# Altium footprint library ETech PCB Rev 1.0.PcbLib: 102 footprints (part 5 of 7)
Each footprint in its own frame and in the unit in brackets; x right, y up, seen from the top. Pads: shape width x height; smd on the part's side, far side on the other; paste and mask are expansions set on the pad; w line width, h text height; cw(c..) or ccw(c..) is an arc to the next point about the centre after c.
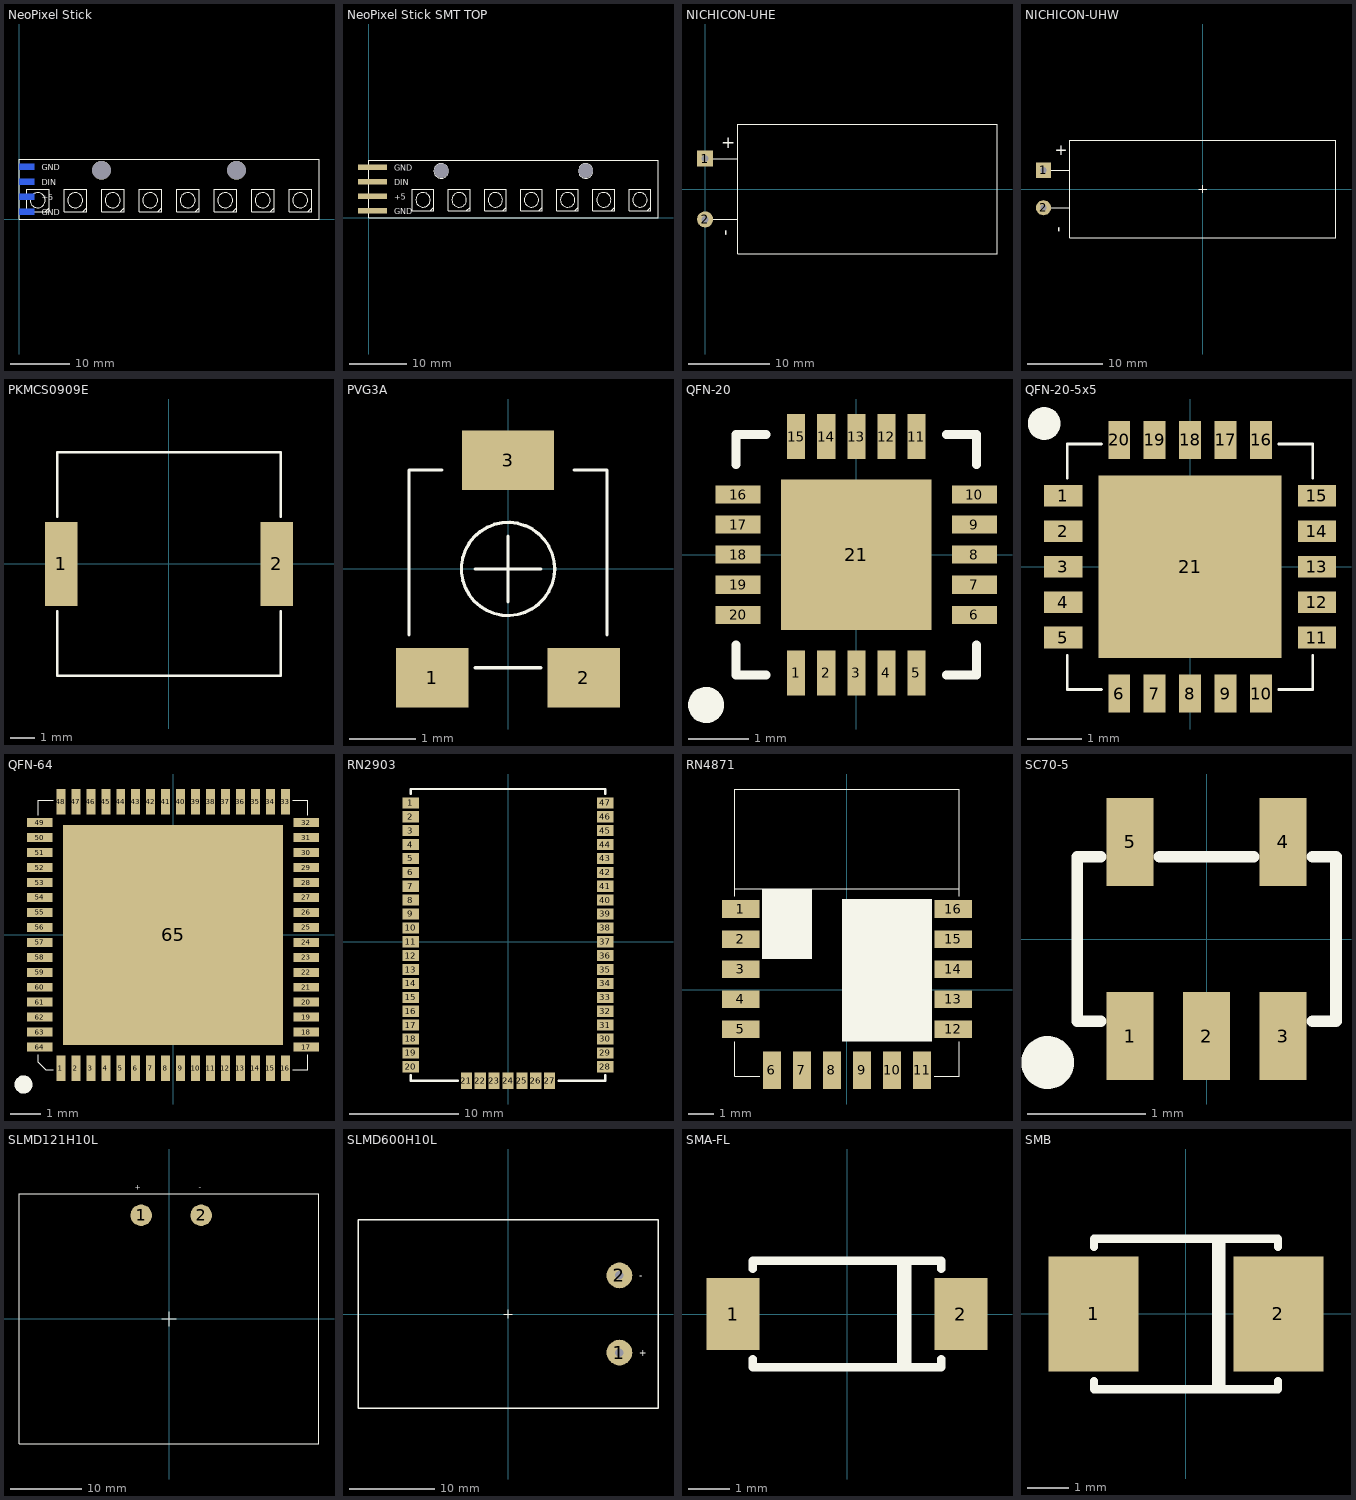
[diagram p4: the footprints below, top view; thin cyan lines are the x and y axes]

## NeoPixel Stick [mil] "NeoPixel Stick with 8 LED's"
height 751.97
pads (6):
  rect 100x40 smd far side: 1(50,350) 2(50,250) 3(50,150) 4(50,50)
  round 125 hole 125 unplated: ""(550,325) ""(1450,325)
Top Overlay:
  circle w1.97: c125,125 r50
  circle w1.97: c375,125 r50
  circle w1.97: c625,125 r50
  circle w1.97: c875,125 r50
  circle w1.97: c1125,125 r50
  circle w1.97: c1375,125 r50
  circle w1.97: c1625,125 r50
  circle w1.97: c1875,125 r50
  lines w2.05: 175,50 200,75 ; 425,50 450,75 ; 675,50 700,75 ; 925,50 950,75 ; 1175,50 1200,75 ; 1425,50 1450,75 ; 1675,50 1700,75 ; 1925,50 1950,75 ; 50,50 200,50 200,200 50,200 50,50 ; 300,50 450,50 450,200 300,200 300,50 ; 550,50 700,50 700,200 550,200 550,50 ; 800,50 950,50 950,200 800,200 800,50 ; 1050,50 1200,50 1200,200 1050,200 1050,50 ; 1300,50 1450,50 1450,200 1300,200 1300,50 ; 1550,50 1700,50 1700,200 1550,200 1550,50 ; 1800,50 1950,50 1950,200 1800,200 1800,50
  lines w8: 0,0 2000,0 2000,400 0,400 0,0
  text "GND" at 150,325 h40
  text "DIN" at 150,225 h40
  text "+5" at 150,125 h40
  text "GND" at 150,25 h40

## NeoPixel Stick SMT TOP [mil] "NeoPixel Stick with 8 LED's"
height 751.97
pads (6):
  rect 200x40 smd: 1(25,350) 2(25,250) 3(25,150) 4(25,50)
  round 80 hole 100 unplated: ""(500,325) ""(1500,325)
Top Overlay:
  circle w1.97: c1875,125 r50
  circle w1.97: c1625,125 r50
  circle w1.97: c1375,125 r50
  circle w1.97: c1125,125 r50
  circle w1.97: c875,125 r50
  circle w1.97: c625,125 r50
  circle w1.97: c375,125 r50
  circle w6: c500,325 r50
  circle w6: c1500,325 r50
  lines w2.05: 425,50 450,75 ; 675,50 700,75 ; 925,50 950,75 ; 1175,50 1200,75 ; 1425,50 1450,75 ; 1675,50 1700,75 ; 1925,50 1950,75 ; 300,50 300,200 450,200 450,50 300,50 ; 550,50 550,200 700,200 700,50 550,50 ; 800,50 800,200 950,200 950,50 800,50 ; 1050,50 1050,200 1200,200 1200,50 1050,50 ; 1300,50 1300,200 1450,200 1450,50 1300,50 ; 1550,50 1550,200 1700,200 1700,50 1550,50 ; 1800,50 1800,200 1950,200 1950,50 1800,50
  lines w8: 0,0 0,400 2000,400 2000,0 0,0
  text "GND" at 175,25 h40
  text "+5" at 175,125 h40
  text "DIN" at 175,225 h40
  text "GND" at 175,325 h40

## NICHICON-UHE [mm]
height 19.1
pads (2):
  rect 2x2 hole 0.85 unplated: 1(0,3.75)
  round 2 hole 0.85 unplated: 2(0,-3.75)
Top Overlay:
  lines w0.152: 0,-3.75 4,-3.75 ; 0,3.75 4,3.75 ; 4,-8 4,8 36,8 36,-8 4,-8
  text "-" at 2,-5 h1.52
  text "+" at 2,5 h1.52

## NICHICON-UHW [mm]
height 19.1
pads (2):
  rect 2x2 hole 0.85 unplated: 1(-21.25,2.5)
  round 2 hole 0.85 unplated: 2(-21.25,-2.5)
Top Overlay:
  lines w0.05: -0.55,0 0.5,0 ; 0,-0.5 0,0.5
  lines w0.152: -21.25,-2.5 -17.75,-2.5 ; -21.25,2.5 -17.75,2.5 ; -17.75,-6.5 17.75,-6.5 17.75,6.5 -17.75,6.5 -17.75,-6.5
  text "+" at -19.75,4.5 h1.52
  text "-" at -19.75,-5 h1.52

## PKMCS0909E [mm]
pads (2):
  rect 1.3x3.4 smd: 1(-4.35,0) 2(4.35,0)
Top Overlay:
  lines w0.1: -4.5,-1.9 -4.5,-4.5 4.5,-4.5 4.5,-1.9 ; -4.5,1.9 -4.5,4.5 4.5,4.5 4.5,1.9

## PVG3A [mm] "3mm Trim Pot"
height 19.1
pads (3):
  rect 1.1x0.9 smd: 1(-1.15,-1.65) 2(1.15,-1.65)
  rect 1.4x0.9 smd: 3(0,1.65)
Top Overlay:
  circle w0.05: c0,0 r0.707
  lines w0.05: -1.5,-1 -1.5,1.5 -1,1.5 ; -0.5,-1.5 0.5,-1.5 ; -0.5,0 0.5,0 ; 0,-0.5 0,0.5 ; 1,1.5 1.5,1.5 1.5,-1

## QFN-20 [mm]
height 2.4
pads (21):
  rect 0.3x0.75 smd mask+0.075: 1(-1,-1.965) 2(-0.5,-1.965) 3(0,-1.965) 4(0.5,-1.965) 5(1,-1.965) 11(1,1.965) 12(0.5,1.965) 13(0,1.965) 14(-0.5,1.965) 15(-1,1.965)
  rect 0.75x0.3 smd mask+0.075: 6(1.965,-1) 7(1.965,-0.5) 8(1.965,0) 9(1.965,0.5) 10(1.965,1) 16(-1.965,1) 17(-1.965,0.5) 18(-1.965,0) 19(-1.965,-0.5) 20(-1.965,-1)
  rect 2.5x2.5 smd mask+0.075: 21(0,0)
Top Overlay:
  circle w0.3: c-2.5,-2.5 r0.15
  lines w0.15: -2,-1.5 -2,-2 -1.5,-2 ; -2,1.5 -2,2 -1.5,2 ; 1.5,-2 2,-2 2,-1.5 ; 1.5,2 2,2 2,1.5

## QFN-20-5x5 [mm]
height 2.4
pads (21):
  rect 0.7x0.4 smd mask+0.075: 1(-2.325,1.3) 2(-2.325,0.65) 3(-2.325,0) 4(-2.325,-0.65) 5(-2.325,-1.3) 11(2.325,-1.3) 12(2.325,-0.65) 13(2.325,0) 14(2.325,0.65) 15(2.325,1.3)
  rect 0.4x0.7 smd mask+0.075: 6(-1.3,-2.325) 7(-0.65,-2.325) 8(0,-2.325) 9(0.65,-2.325) 10(1.3,-2.325) 16(1.3,2.325) 17(0.65,2.325) 18(0,2.325) 19(-0.65,2.325) 20(-1.3,2.325)
  rect 3.35x3.35 smd mask+0.075: 21(0,0)
Top Overlay:
  circle w0.3: c-2.675,2.625 r0.15
  lines w0.05: -2.25,-1.625 -2.25,-2.25 -1.625,-2.25 ; -2.25,1.625 -2.25,2.25 -1.625,2.25 ; 1.625,-2.25 2.25,-2.25 2.25,-1.625 ; 1.625,2.25 2.25,2.25 2.25,1.625

## QFN-64 [mm]
height 2.4
pads (65):
  rect 0.3x0.85 smd mask+0.075: 1(-3.75,-4.45) 2(-3.25,-4.45) 3(-2.75,-4.45) 4(-2.25,-4.45) 5(-1.75,-4.45) 6(-1.25,-4.45) 7(-0.75,-4.45) 8(-0.25,-4.45) 9(0.25,-4.45) 10(0.75,-4.45) 11(1.25,-4.45) 12(1.75,-4.45) 13(2.25,-4.45) 14(2.75,-4.45) 15(3.25,-4.45) 16(3.75,-4.45) 33(3.75,4.45) 34(3.25,4.45) 35(2.75,4.45) 36(2.25,4.45) 37(1.75,4.45) 38(1.25,4.45) 39(0.75,4.45) 40(0.25,4.45) 41(-0.25,4.45) 42(-0.75,4.45) 43(-1.25,4.45) 44(-1.75,4.45) 45(-2.25,4.45) 46(-2.75,4.45) 47(-3.25,4.45) 48(-3.75,4.45)
  rect 0.85x0.3 smd mask+0.075: 17(4.45,-3.75) 18(4.45,-3.25) 19(4.45,-2.75) 20(4.45,-2.25) 21(4.45,-1.75) 22(4.45,-1.25) 23(4.45,-0.75) 24(4.45,-0.25) 25(4.45,0.25) 26(4.45,0.75) 27(4.45,1.25) 28(4.45,1.75) 29(4.45,2.25) 30(4.45,2.75) 31(4.45,3.25) 32(4.45,3.75) 49(-4.45,3.75) 50(-4.45,3.25) 51(-4.45,2.75) 52(-4.45,2.25) 53(-4.45,1.75) 54(-4.45,1.25) 55(-4.45,0.75) 56(-4.45,0.25) 57(-4.45,-0.25) 58(-4.45,-0.75) 59(-4.45,-1.25) 60(-4.45,-1.75) 61(-4.45,-2.25) 62(-4.45,-2.75) 63(-4.45,-3.25) 64(-4.45,-3.75)
  rect 7.35x7.35 smd: 65(0,0)
Top Overlay:
  circle w0.3: c-5,-5 r0.15
  lines w0.015: -4.5,-4 -4.5,-4.25 -4.25,-4.5 -4,-4.5 ; -4.5,4 -4.5,4.5 -4,4.5 ; 4,-4.5 4.5,-4.5 4.5,-4 ; 4,4.5 4.5,4.5 4.5,4

## RN2903 [mm]
height 1.1
pads (47):
  rect 1.525x1.016 smd: 1(-8.89,12.7) 2(-8.89,11.43) 3(-8.89,10.16) 4(-8.89,8.89) 5(-8.89,7.62) 6(-8.89,6.35) 7(-8.89,5.08) 8(-8.89,3.81) 9(-8.89,2.54) 10(-8.89,1.27) 11(-8.89,0) 12(-8.89,-1.27) 13(-8.89,-2.54) 14(-8.89,-3.81) 15(-8.89,-5.08) 16(-8.89,-6.35) 17(-8.89,-7.62) 18(-8.89,-8.89) 19(-8.89,-10.16) 20(-8.89,-11.43) 28(8.89,-11.43) 29(8.89,-10.16) 30(8.89,-8.89) 31(8.89,-7.62) 32(8.89,-6.35) 33(8.89,-5.08) 34(8.89,-3.81) 35(8.89,-2.54) 36(8.89,-1.27) 37(8.89,0) 38(8.89,1.27) 39(8.89,2.54) 40(8.89,3.81) 41(8.89,5.08) 42(8.89,6.35) 43(8.89,7.62) 44(8.89,8.89) 45(8.89,10.16) 46(8.89,11.43) 47(8.89,12.7)
  rect 1.016x1.525 smd: 21(-3.81,-12.7) 22(-2.54,-12.7) 23(-1.27,-12.7) 24(0,-12.7) 25(1.27,-12.7) 26(2.54,-12.7) 27(3.81,-12.7)
Top Overlay:
  lines w0.2: -8.89,-12.2 -8.89,-12.7 -4.59,-12.7 ; -8.89,13.5 -8.89,13.97 8.89,13.97 8.89,13.5 ; 4.61,-12.7 8.89,-12.7 8.89,-12.2

## RN4871 [mm]
height 2
pads (16):
  rect 1.5x0.7 smd: 1(-4.25,3.225) 2(-4.25,2.025) 3(-4.25,0.825) 4(-4.25,-0.375) 5(-4.25,-1.575) 12(4.25,-1.575) 13(4.25,-0.375) 14(4.25,0.825) 15(4.25,2.025) 16(4.25,3.225)
  rect 0.7x1.5 smd: 6(-3,-3.225) 7(-1.8,-3.225) 8(-0.6,-3.225) 9(0.6,-3.225) 10(1.8,-3.225) 11(3,-3.225)
Top Overlay:
  rectangle: -0.2,-2.075 3.4,3.625
  rectangle: -3.4,1.225 -1.4,4.025
  lines w0.05: -4.5,-2.075 -4.5,-3.475 -3.5,-3.475 ; -4.5,3.725 -4.5,8.025 4.5,8.025 4.5,3.725 ; -4.5,4.025 4.5,4.025 ; 3.5,-3.475 4.5,-3.475 4.5,-2.075

## SC70-5 [mm]
height 1.1
pads (5):
  rect 0.4x0.75 smd: 1(-0.65,-0.825) 2(0,-0.825) 3(0.65,-0.825) 4(0.65,0.825) 5(-0.65,0.825)
Top Overlay:
  circle w0.25: c-1.35,-1.05 r0.1
  lines w0.1: -0.9,-0.7 -1.1,-0.7 -1.1,0.7 -0.9,0.7 ; -0.4,0.7 0.4,0.7 ; 0.9,-0.7 1.1,-0.7 1.1,0.7 0.9,0.7

## SLMD121H10L [mm]
height 19.1
pads (2):
  round 3 smd: 1(-3.9,14.5) 2(4.5,14.5)
Top Overlay:
  lines w0.045: -1,0 1,0 ; 0,-1 0,1
  lines w0.152: -21,-17.5 21,-17.5 21,17.5 -21,17.5 -21,-17.5
  text "+" at -4.8,18.1 h0.76
  text "-" at 4.2,18.1 h0.76

## SLMD600H10L [mm]
height 19.1
pads (2):
  round 3 hole 1 unplated: 1(13,-4.5) 2(13,4.5)
Top Overlay:
  lines w0.045: -0.5,0 0.5,0 ; 0,-0.5 0,0.5
  lines w0.152: -17.5,-11 -17.5,11 17.5,11 17.5,-11 -17.5,-11
  text "-" at 15.3,4.1 h0.76
  text "+" at 15.3,-4.9 h0.76

## SMA-FL [mm]
pads (2):
  rect 1.3x1.76 smd: 1(-2.78,0) 2(2.78,0)
Top Overlay:
  lines w0.152: 1.3,-1.3 1.3,1.3 ; 1.4,-1.3 1.4,1.2 ; 1.5,-1.3 1.5,1.3
  lines w0.2: -2.3,-1.1 -2.3,-1.3 2.3,-1.3 2.3,-1.1 ; -2.3,1.1 -2.3,1.3 2.3,1.3 2.3,1.1

## SMB [mm]
pads (2):
  rect 2.16x2.75 smd: 1(-2.21,0) 2(2.211,0)
Top Overlay:
  lines w0.152: 0.7,-1.8 0.7,1.8 ; 0.77,-1.8 0.77,1.8 ; 0.87,-1.7 0.87,1.8
  lines w0.2: -2.2,-1.6 -2.2,-1.8 2.2,-1.8 2.2,-1.6 ; -2.2,1.6 -2.2,1.8 2.2,1.8 2.2,1.6